# Altium schematic symbol library TEP-AltiumLib-Passives.SCHLIB: 5 symbols
Pins are listed as number, name and electrical type; pins without a type are passive.

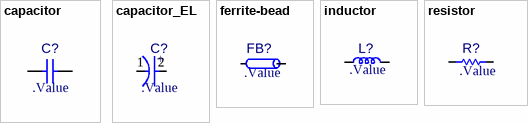
[diagram p0: symbols capacitor to resistor]

## capacitor
designator C?  value .Value
Capacitor type 1
pins: 1, 2

## capacitor_EL
designator C?  value .Value
Capacitor type EL
footprint C_EL_D10MM-L11MM (SMD, D10xL10.5mm)
pins: 1 C, 2 A
text: +

## ferrite-bead
designator FB?  value .Value
Ferrite Bead type 1
pins: 1, 2

## inductor
designator L?  value .Value
Inductor type 1
pins: 1, 2

## resistor
designator R?  value .Value
Resistor type 1
pins: 1, 2